# EAGLE library part AD21065L (library analog-devices)
ANALOG DEVICES
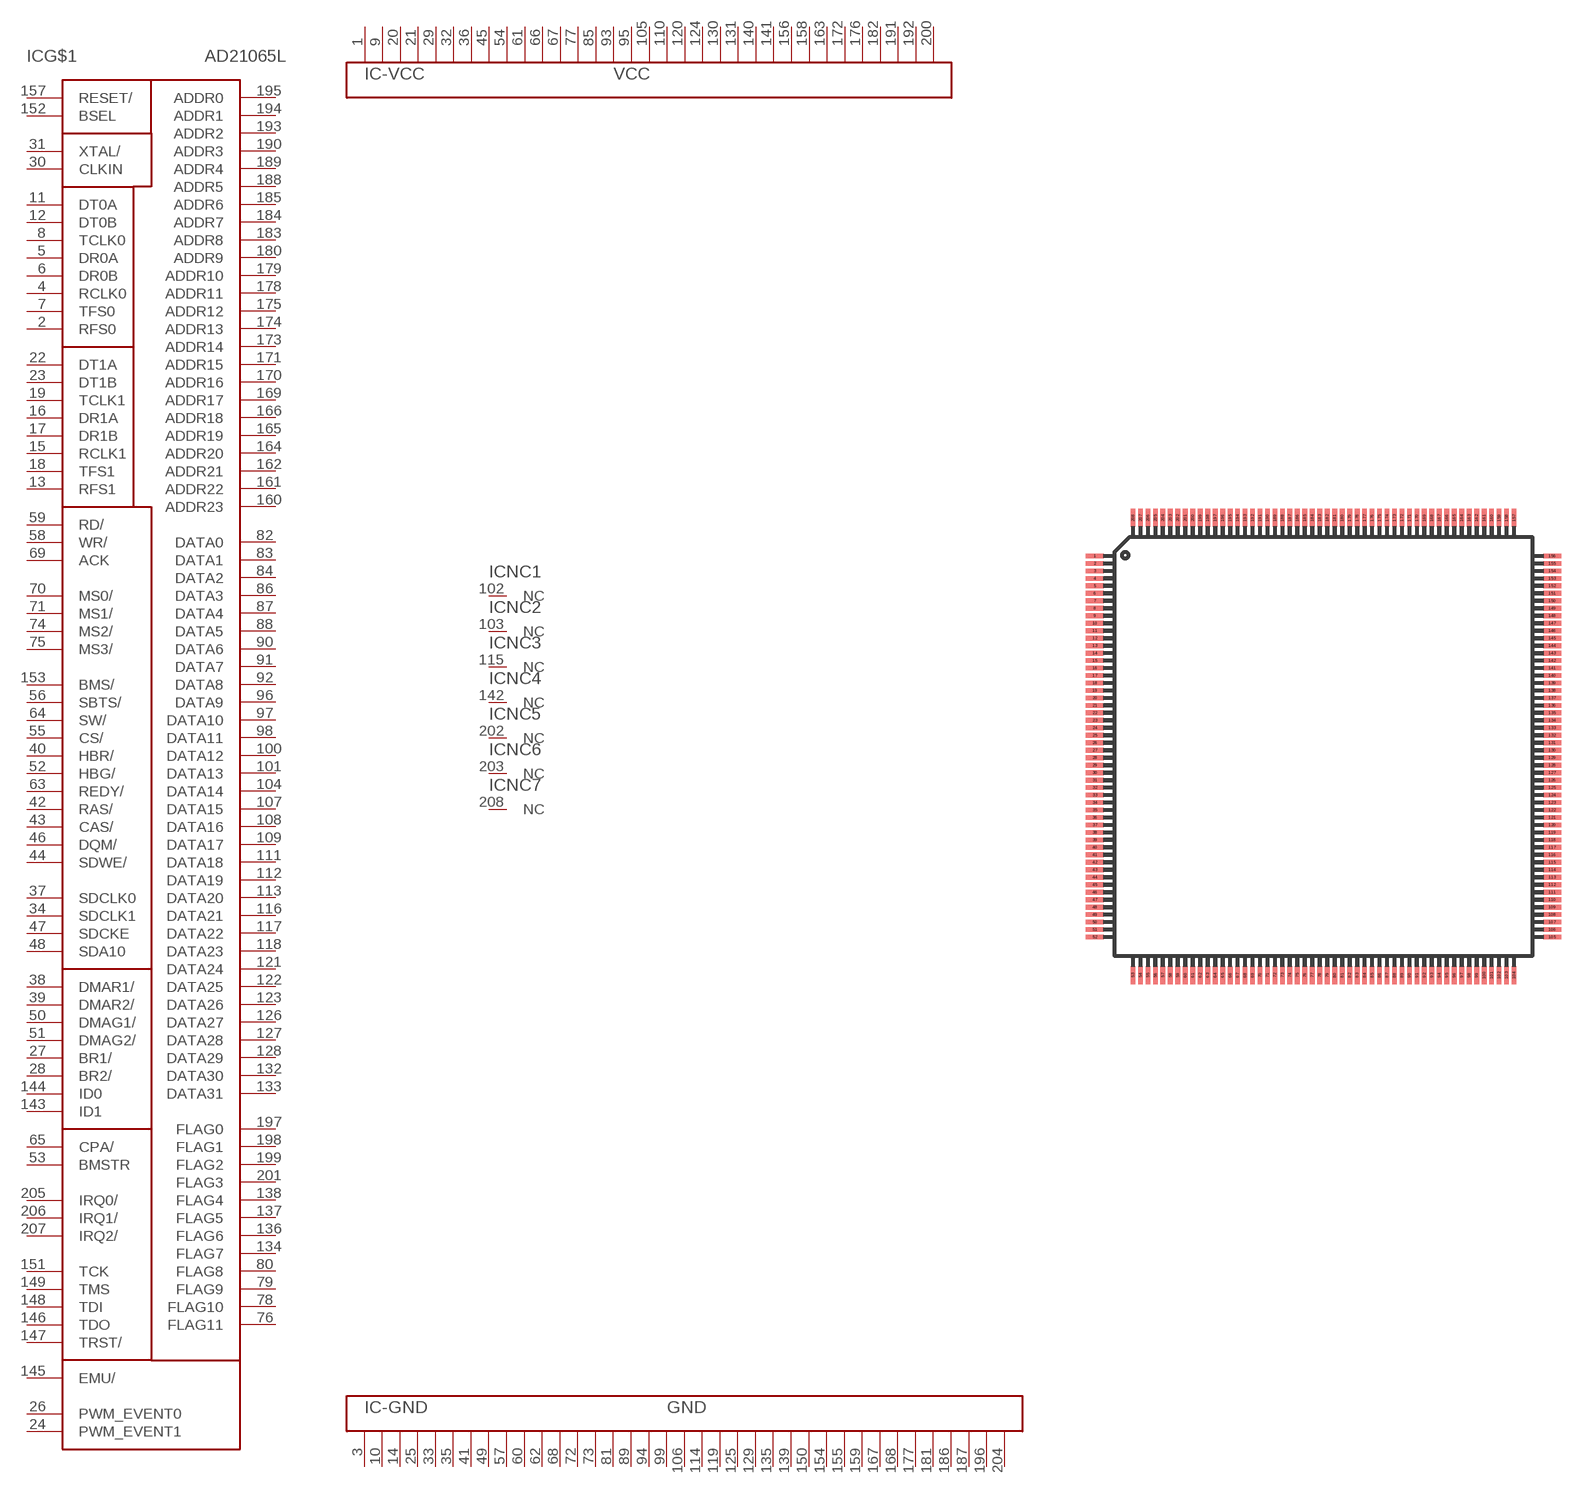
[diagram p12: symbol with the pads of PQFP208; footprint PQFP208]

Designator prefix IC; gates G$1=SP21065L -GND=GND37 NC1=NC NC2=NC NC3=NC NC4=NC NC5=NC NC6=NC NC7=NC -VCC=VCC32

## AD21065L (OC_FARNELL: unknown; OC_NEWARK: unknown)  [PQFP208]
1  -VCC:VCC  pwr
2  G$1:RFS0
3  -GND:GND  pwr
4  G$1:RCLK0
5  G$1:DR0A  in
6  G$1:DR0B  in
7  G$1:TFS0
8  G$1:TCLK0
9  -VCC:VCC  pwr
10  -GND:GND  pwr
11  G$1:DT0A  out
12  G$1:DT0B  out
13  G$1:RFS1
14  -GND:GND  pwr
15  G$1:RCLK1
16  G$1:DR1A  in
17  G$1:DR1B  in
18  G$1:TFS1
19  G$1:TCLK1
20  -VCC:VCC  pwr
21  -VCC:VCC  pwr
22  G$1:DT1A  out
23  G$1:DT1B  out
24  G$1:PWM_EVENT1
25  -GND:GND  pwr
26  G$1:PWM_EVENT0
27  G$1:BR1/
28  G$1:BR2/
29  -VCC:VCC  pwr
30  G$1:CLKIN  in
31  G$1:XTAL/  out
32  -VCC:VCC  pwr
33  -GND:GND  pwr
34  G$1:SDCLK1  hiz
35  -GND:GND  pwr
36  -VCC:VCC  pwr
37  G$1:SDCLK0  hiz
38  G$1:DMAR1/  in
39  G$1:DMAR2/  in
40  G$1:HBR/  in
41  -GND:GND  pwr
42  G$1:RAS/  hiz
43  G$1:CAS/  hiz
44  G$1:SDWE/  hiz
45  -VCC:VCC  pwr
46  G$1:DQM/  hiz
47  G$1:SDCKE  hiz
48  G$1:SDA10  hiz
49  -GND:GND  pwr
50  G$1:DMAG1/  hiz
51  G$1:DMAG2/  hiz
52  G$1:HBG/
53  G$1:BMSTR  out
54  -VCC:VCC  pwr
55  G$1:CS/  in
56  G$1:SBTS/  in
57  -GND:GND  pwr
58  G$1:WR/  hiz
59  G$1:RD/  hiz
60  -GND:GND  pwr
61  -VCC:VCC  pwr
62  -GND:GND  pwr
63  G$1:REDY/  out
64  G$1:SW/  hiz
65  G$1:CPA/
66  -VCC:VCC  pwr
67  -VCC:VCC  pwr
68  -GND:GND  pwr
69  G$1:ACK
70  G$1:MS0/  hiz
71  G$1:MS1/  hiz
72  -GND:GND  pwr
73  -GND:GND  pwr
74  G$1:MS2/  hiz
75  G$1:MS3/  hiz
76  G$1:FLAG11
77  -VCC:VCC  pwr
78  G$1:FLAG10
79  G$1:FLAG9
80  G$1:FLAG8
81  -GND:GND  pwr
82  G$1:DATA0
83  G$1:DATA1
84  G$1:DATA2
85  -VCC:VCC  pwr
86  G$1:DATA3
87  G$1:DATA4
88  G$1:DATA5
89  -GND:GND  pwr
90  G$1:DATA6
91  G$1:DATA7
92  G$1:DATA8
93  -VCC:VCC  pwr
94  -GND:GND  pwr
95  -VCC:VCC  pwr
96  G$1:DATA9
97  G$1:DATA10
98  G$1:DATA11
99  -GND:GND  pwr
100  G$1:DATA12
101  G$1:DATA13
102  NC1:NC  nc
103  NC2:NC  nc
104  G$1:DATA14
105  -VCC:VCC  pwr
106  -GND:GND  pwr
107  G$1:DATA15
108  G$1:DATA16
109  G$1:DATA17
110  -VCC:VCC  pwr
111  G$1:DATA18
112  G$1:DATA19
113  G$1:DATA20
114  -GND:GND  pwr
115  NC3:NC  nc
116  G$1:DATA21
117  G$1:DATA22
118  G$1:DATA23
119  -GND:GND  pwr
120  -VCC:VCC  pwr
121  G$1:DATA24
122  G$1:DATA25
123  G$1:DATA26
124  -VCC:VCC  pwr
125  -GND:GND  pwr
126  G$1:DATA27
127  G$1:DATA28
128  G$1:DATA29
129  -GND:GND  pwr
130  -VCC:VCC  pwr
131  -VCC:VCC  pwr
132  G$1:DATA30
133  G$1:DATA31
134  G$1:FLAG7
135  -GND:GND  pwr
136  G$1:FLAG6
137  G$1:FLAG5
138  G$1:FLAG4
139  -GND:GND  pwr
140  -VCC:VCC  pwr
141  -VCC:VCC  pwr
142  NC4:NC  nc
143  G$1:ID1  in
144  G$1:ID0  in
145  G$1:EMU/  out
146  G$1:TDO  out
147  G$1:TRST/  in
148  G$1:TDI  in
149  G$1:TMS  in
150  -GND:GND  pwr
151  G$1:TCK  in
152  G$1:BSEL  in
153  G$1:BMS/
154  -GND:GND  pwr
155  -GND:GND  pwr
156  -VCC:VCC  pwr
157  G$1:RESET/  in
158  -VCC:VCC  pwr
159  -GND:GND  pwr
160  G$1:ADDR23
161  G$1:ADDR22
162  G$1:ADDR21
163  -VCC:VCC  pwr
164  G$1:ADDR20
165  G$1:ADDR19
166  G$1:ADDR18
167  -GND:GND  pwr
168  -GND:GND  pwr
169  G$1:ADDR17
170  G$1:ADDR16
171  G$1:ADDR15
172  -VCC:VCC  pwr
173  G$1:ADDR14
174  G$1:ADDR13
175  G$1:ADDR12
176  -VCC:VCC  pwr
177  -GND:GND  pwr
178  G$1:ADDR11
179  G$1:ADDR10
180  G$1:ADDR9
181  -GND:GND  pwr
182  -VCC:VCC  pwr
183  G$1:ADDR8
184  G$1:ADDR7
185  G$1:ADDR6
186  -GND:GND  pwr
187  -GND:GND  pwr
188  G$1:ADDR5
189  G$1:ADDR4
190  G$1:ADDR3
191  -VCC:VCC  pwr
192  -VCC:VCC  pwr
193  G$1:ADDR2
194  G$1:ADDR1
195  G$1:ADDR0
196  -GND:GND  pwr
197  G$1:FLAG0
198  G$1:FLAG1
199  G$1:FLAG2
200  -VCC:VCC  pwr
201  G$1:FLAG3
202  NC5:NC  nc
203  NC6:NC  nc
204  -GND:GND  pwr
205  G$1:IRQ0/  in
206  G$1:IRQ1/  in
207  G$1:IRQ2/  in
208  NC7:NC  nc

## Footprint PQFP208 (pad centres in mm)
PLASTIC QUAD FLAT PACK
smd 1.2 x 0.32: 1 -15.3,12.75; 2 -15.3,12.25; 3 -15.3,11.75; 4 -15.3,11.25; 5 -15.3,10.75; 6 -15.3,10.25; 7 -15.3,9.75; 8 -15.3,9.25; 9 -15.3,8.75; 10 -15.3,8.25; 11 -15.3,7.75; 12 -15.3,7.25; 13 -15.3,6.75; 14 -15.3,6.25; 15 -15.3,5.75; 16 -15.3,5.25; 17 -15.3,4.75; 18 -15.3,4.25; 19 -15.3,3.75; 20 -15.3,3.25; 21 -15.3,2.75; 22 -15.3,2.25; 23 -15.3,1.75; 24 -15.3,1.25; 25 -15.3,0.75; 26 -15.3,0.25; 27 -15.3,-0.25; 28 -15.3,-0.75; 29 -15.3,-1.25; 30 -15.3,-1.75; 31 -15.3,-2.25; 32 -15.3,-2.75; 33 -15.3,-3.25; 34 -15.3,-3.75; 35 -15.3,-4.25; 36 -15.3,-4.75; 37 -15.3,-5.25; 38 -15.3,-5.75; 39 -15.3,-6.25; 40 -15.3,-6.75; 41 -15.3,-7.25; 42 -15.3,-7.75; 43 -15.3,-8.25; 44 -15.3,-8.75; 45 -15.3,-9.25; 46 -15.3,-9.75; 47 -15.3,-10.25; 48 -15.3,-10.75; 49 -15.3,-11.25; 50 -15.3,-11.75; 51 -15.3,-12.25; 52 -15.3,-12.75; 105 15.3,-12.75; 106 15.3,-12.25; 107 15.3,-11.75; 108 15.3,-11.25; 109 15.3,-10.75; 110 15.3,-10.25; 111 15.3,-9.75; 112 15.3,-9.25; 113 15.3,-8.75; 114 15.3,-8.25; 115 15.3,-7.75; 116 15.3,-7.25; 117 15.3,-6.75; 118 15.3,-6.25; 119 15.3,-5.75; 120 15.3,-5.25; 121 15.3,-4.75; 122 15.3,-4.25; 123 15.3,-3.75; 124 15.3,-3.25; 125 15.3,-2.75; 126 15.3,-2.25; 127 15.3,-1.75; 128 15.3,-1.25; 129 15.3,-0.75; 130 15.3,-0.25; 131 15.3,0.25; 132 15.3,0.75; 133 15.3,1.25; 134 15.3,1.75; 135 15.3,2.25; 136 15.3,2.75; 137 15.3,3.25; 138 15.3,3.75; 139 15.3,4.25; 140 15.3,4.75; 141 15.3,5.25; 142 15.3,5.75; 143 15.3,6.25; 144 15.3,6.75; 145 15.3,7.25; 146 15.3,7.75; 147 15.3,8.25; 148 15.3,8.75; 149 15.3,9.25; 150 15.3,9.75; 151 15.3,10.25; 152 15.3,10.75; 153 15.3,11.25; 154 15.3,11.75; 155 15.3,12.25; 156 15.3,12.75
smd 0.32 x 1.2: 53 -12.75,-15.3; 54 -12.25,-15.3; 55 -11.75,-15.3; 56 -11.25,-15.3; 57 -10.75,-15.3; 58 -10.25,-15.3; 59 -9.75,-15.3; 60 -9.25,-15.3; 61 -8.75,-15.3; 62 -8.25,-15.3; 63 -7.75,-15.3; 64 -7.25,-15.3; 65 -6.75,-15.3; 66 -6.25,-15.3; 67 -5.75,-15.3; 68 -5.25,-15.3; 69 -4.75,-15.3; 70 -4.25,-15.3; 71 -3.75,-15.3; 72 -3.25,-15.3; 73 -2.75,-15.3; 74 -2.25,-15.3; 75 -1.75,-15.3; 76 -1.25,-15.3; 77 -0.75,-15.3; 78 -0.25,-15.3; 79 0.25,-15.3; 80 0.75,-15.3; 81 1.25,-15.3; 82 1.75,-15.3; 83 2.25,-15.3; 84 2.75,-15.3; 85 3.25,-15.3; 86 3.75,-15.3; 87 4.25,-15.3; 88 4.75,-15.3; 89 5.25,-15.3; 90 5.75,-15.3; 91 6.25,-15.3; 92 6.75,-15.3; 93 7.25,-15.3; 94 7.75,-15.3; 95 8.25,-15.3; 96 8.75,-15.3; 97 9.25,-15.3; 98 9.75,-15.3; 99 10.25,-15.3; 100 10.75,-15.3; 101 11.25,-15.3; 102 11.75,-15.3; 103 12.25,-15.3; 104 12.75,-15.3; 157 12.75,15.3; 158 12.25,15.3; 159 11.75,15.3; 160 11.25,15.3; 161 10.75,15.3; 162 10.25,15.3; 163 9.75,15.3; 164 9.25,15.3; 165 8.75,15.3; 166 8.25,15.3; 167 7.75,15.3; 168 7.25,15.3; 169 6.75,15.3; 170 6.25,15.3; 171 5.75,15.3; 172 5.25,15.3; 173 4.75,15.3; 174 4.25,15.3; 175 3.75,15.3; 176 3.25,15.3; 177 2.75,15.3; 178 2.25,15.3; 179 1.75,15.3; 180 1.25,15.3; 181 0.75,15.3; 182 0.25,15.3; 183 -0.25,15.3; 184 -0.75,15.3; 185 -1.25,15.3; 186 -1.75,15.3; 187 -2.25,15.3; 188 -2.75,15.3; 189 -3.25,15.3; 190 -3.75,15.3; 191 -4.25,15.3; 192 -4.75,15.3; 193 -5.25,15.3; 194 -5.75,15.3; 195 -6.25,15.3; 196 -6.75,15.3; 197 -7.25,15.3; 198 -7.75,15.3; 199 -8.25,15.3; 200 -8.75,15.3; 201 -9.25,15.3; 202 -9.75,15.3; 203 -10.25,15.3; 204 -10.75,15.3; 205 -11.25,15.3; 206 -11.75,15.3; 207 -12.25,15.3; 208 -12.75,15.3